# EAGLE library part 555X-18 (library con-molex-minifit)
Mini FIT connector 18 way
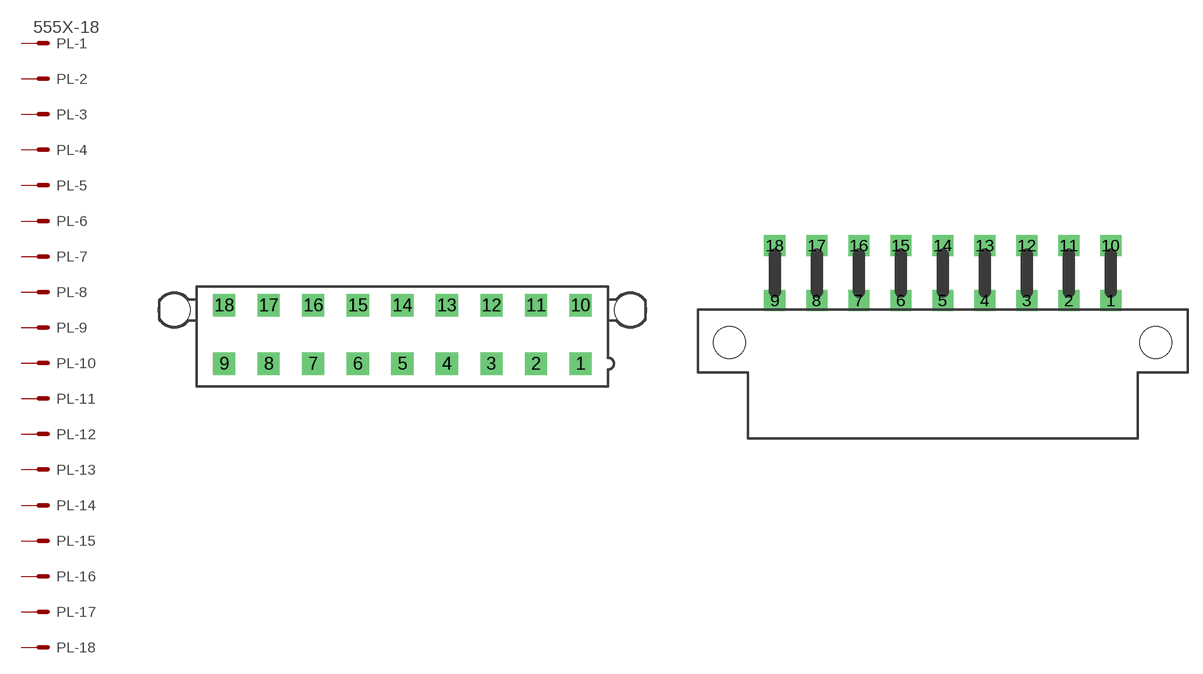
[diagram p6: symbol with the pads of 5566-18; footprints 5566-18, 5569-18]

Designator prefix PL; gates -1=MV -2=M -3=M -4=M -5=M -6=M -7=M -8=M -9=M -10=M -11=M -12=M -13=M -14=M -15=M -16=M -17=M -18=M

## 555X-18V  [5566-18]
1  -1:S  pas
2  -2:S  pas
3  -3:S  pas
4  -4:S  pas
5  -5:S  pas
6  -6:S  pas
7  -7:S  pas
8  -8:S  pas
9  -9:S  pas
10  -10:S  pas
11  -11:S  pas
12  -12:S  pas
13  -13:S  pas
14  -14:S  pas
15  -15:S  pas
16  -16:S  pas
17  -17:S  pas
18  -18:S  pas

## 555X-18H  [5569-18]
Pads as for 5566-18

## Footprint 5566-18 (pad centres in mm)
Mini FIT connector 18 pol
drill 1.4 square: 1 16.8,-2.75; 2 12.6,-2.75; 3 8.4,-2.75; 4 4.2,-2.75; 5 0,-2.75; 6 -4.2,-2.75; 7 -8.4,-2.75; 8 -12.6,-2.75; 9 -16.8,-2.75; 10 16.8,2.75; 11 12.6,2.75; 12 8.4,2.75; 13 4.2,2.75; 14 0,2.75; 15 -4.2,2.75; 16 -8.4,2.75; 17 -12.6,2.75; 18 -16.8,2.75
hole 3 at 21.5,2.29
hole 3 at -21.5,2.29

## Footprint 5569-18 (pad centres in mm)
Mini FIT connector 18 R/A
drill 1.4 square: 1 16.8,0; 2 12.6,0; 3 8.4,0; 4 4.2,0; 5 0,0; 6 -4.2,0; 7 -8.4,0; 8 -12.6,0; 9 -16.8,0; 10 16.8,5.5; 11 12.6,5.5; 12 8.4,5.5; 13 4.2,5.5; 14 0,5.5; 15 -4.2,5.5; 16 -8.4,5.5; 17 -12.6,5.5; 18 -16.8,5.5
hole 3.2 at 21.3,-4.2
hole 3.2 at -21.3,-4.2